# Altium schematic symbol library BAT54C-TP.SchLib: 2 symbols
Pins are listed as number, name and electrical type; pins without a type are passive.

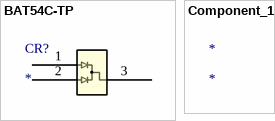
[diagram p0: symbols BAT54C-TP to Component_1]

## BAT54C-TP
designator CR?
No Description Available; Mfr_Name: MCC; RefDes: RefDes; Type: Type
footprint BAT54C-TP_MCE
pins: 1, 2, 3

## Component_1
designator *